# EAGLE library part LM124_PTH (library SamacSys_Parts)
Low Power Quad Operational Amplifier Source: Datasheet <http://www.ti.com/lit/gpn/lm124-n>
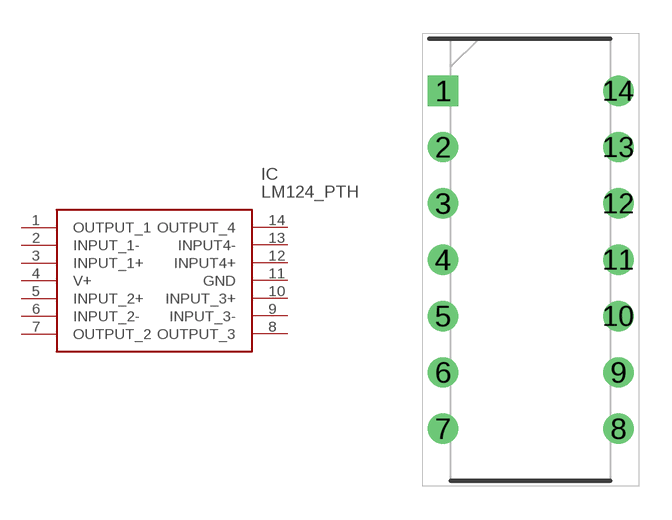
[diagram p5: symbol with the pads of CDIP790W66P254L1954H508Q14; footprint CDIP790W66P254L1954H508Q14]

Designator prefix IC

## LM124_PTH (ARROW_PART_NUMBER: LM124J/PB; ARROW_PRICE-STOCK: https://www.arrow.com/en/products/lm124jpb/texas-instruments; DESCRIPTION: Low Power Quad Operational Amplifier; HEIGHT: 5.08mm; MANUFACTURER_NAME: Texas Instruments; MANUFACTURER_PART_NUMBER: LM124J/PB; MOUSER_PART_NUMBER: 926-LM124J; MOUSER_PRICE-STOCK: https://www.mouser.co.uk/ProductDetail/Texas-Instruments/LM124J-PB?qs=iiglMaU8SAcLiddS7jKHDA%3D%3D)  [CDIP790W66P254L1954H508Q14]
1  OUTPUT_1
2  INPUT_1-
3  INPUT_1+
4  V+
5  INPUT_2+
6  INPUT_2-
7  OUTPUT_2
8  OUTPUT_3
9  INPUT_3-
10  INPUT_3+
11  GND
12  INPUT4+
13  INPUT4-
14  OUTPUT_4

## Footprint CDIP790W66P254L1954H508Q14 (pad centres in mm)
J0014A
drill 0.86 pad 1.26 square: 1 -3.95,7.62
drill 0.86 pad 1.26: 2 -3.95,5.08; 3 -3.95,2.54; 4 -3.95,0; 5 -3.95,-2.54; 6 -3.95,-5.08; 7 -3.95,-7.62; 8 3.95,-7.62; 9 3.95,-5.08; 10 3.95,-2.54; 11 3.95,0; 12 3.95,2.54; 13 3.95,5.08; 14 3.95,7.62